# EAGLE library part I__4022 (library ..SMD)
Divide-by 8 COUNTER
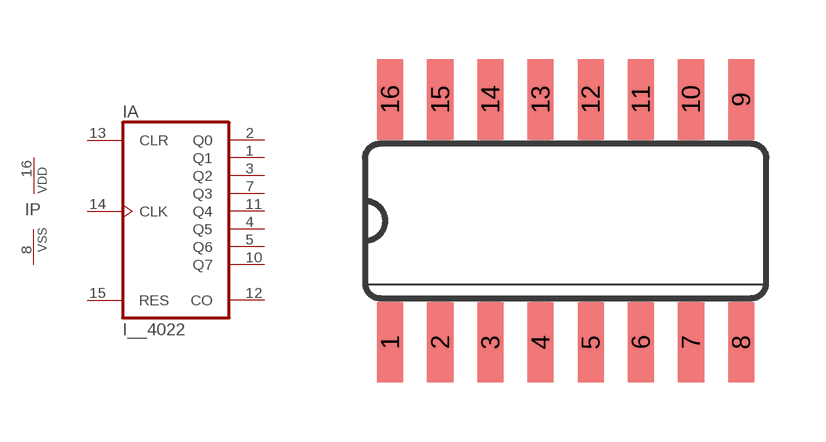
[diagram p25: symbol with the pads of SO16; footprint SO16]

Designator prefix I; gates A=4022 P=PWRN

## I__4022D  [SO16]
1  A:Q1  out
2  A:Q0  out
3  A:Q2  out
4  A:Q5  out
5  A:Q6  out
7  A:Q3  out
8  P:VSS  pwr
10  A:Q7  out
11  A:Q4  out
12  A:CO  out
13  A:CLR  in
14  A:CLK  in
15  A:RES  in
16  P:VDD  pwr

## Footprint SO16 (pad centres in mm)
Small Outline Package 16
smd 0.66 x 2.032: 1 -4.445,-3.073; 2 -3.175,-3.073; 3 -1.905,-3.073; 4 -0.635,-3.073; 5 0.635,-3.073; 6 1.905,-3.073; 7 3.175,-3.073; 8 4.445,-3.073; 9 4.445,3.073; 10 3.175,3.073; 11 1.905,3.073; 12 0.635,3.073; 13 -0.635,3.073; 14 -1.905,3.073; 15 -3.175,3.073; 16 -4.445,3.073